# Altium footprint library Nucleo-64-G474.PcbLib: 1 footprints
Each footprint in its own frame and in the unit in brackets; x right, y up, seen from the top. Pads: shape width x height; smd on the part's side, far side on the other; paste and mask are expansions set on the pad; w line width, h text height; cw(c..) or ccw(c..) is an arc to the next point about the centre after c.
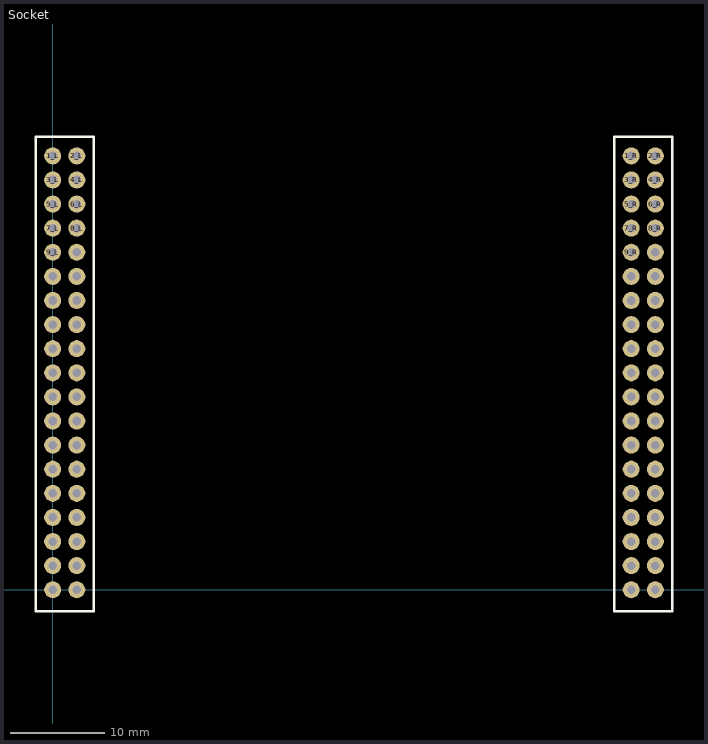
[diagram p0: the footprint, top view; thin cyan lines are the x and y axes]

## Socket [mm]
pads (76):
  round 1.8 hole 0.9: 1_L(0,45.72) 1_R(60.96,45.72) 2_L(2.54,45.72) 2_R(63.5,45.72) 3_L(0,43.18) 3_R(60.96,43.18) 4_L(2.54,43.18) 4_R(63.5,43.18) 5_L(0,40.64) 5_R(60.96,40.64) 6_L(2.54,40.64) 6_R(63.5,40.64) 7_L(0,38.1) 7_R(60.96,38.1) 8_L(2.54,38.1) 8_R(63.5,38.1) 9_L(0,35.56) 9_R(60.96,35.56) 10_L(2.54,35.56) 10_R(63.5,35.56) 11_L(0,33.02) 11_R(60.96,33.02) 12_L(2.54,33.02) 12_R(63.5,33.02) 13_L(0,30.48) 13_R(60.96,30.48) 14_L(2.54,30.48) 14_R(63.5,30.48) 15_L(0,27.94) 15_R(60.96,27.94) 16_L(2.54,27.94) 16_R(63.5,27.94) 17_L(0,25.4) 17_R(60.96,25.4) 18_L(2.54,25.4) 18_R(63.5,25.4) 19_L(0,22.86) 19_R(60.96,22.86) 20_L(2.54,22.86) 20_R(63.5,22.86) 21_L(0,20.32) 21_R(60.96,20.32) 22_L(2.54,20.32) 22_R(63.5,20.32) 23_L(0,17.78) 23_R(60.96,17.78) 24_L(2.54,17.78) 24_R(63.5,17.78) 25_L(0,15.24) 25_R(60.96,15.24) 26_L(2.54,15.24) 26_R(63.5,15.24) 27_L(0,12.7) 27_R(60.96,12.7) 28_L(2.54,12.7) 28_R(63.5,12.7) 29_L(0,10.16) 29_R(60.96,10.16) 30_L(2.54,10.16) 30_R(63.5,10.16) 31_L(0,7.62) 31_R(60.96,7.62) 32_L(2.54,7.62) 32_R(63.5,7.62) 33_L(0,5.08) 33_R(60.96,5.08) 34_L(2.54,5.08) 34_R(63.5,5.08) 35_L(0,2.54) 35_R(60.96,2.54) 36_L(2.54,2.54) 36_R(63.5,2.54) 37_L(0,0) 37_R(60.96,0) 38_L(2.54,0) 38_R(63.5,0)
Top Overlay:
  lines w0.254: -1.778,-2.286 4.318,-2.286 4.318,47.752 -1.778,47.752 -1.778,-2.286 ; 59.182,-2.286 59.182,47.752 65.278,47.752 65.278,-2.286 59.182,-2.286
3D body "MB1367C-for mechanical-drawing.x_t": height -4.03, standoff -22.7, extent -3.302,-4.995 66.698,78.655
3D body "SSW-119-01-T-D.stp": height 1.14, standoff -10.01, extent -1.207,-1.524 3.747,47.244
3D body "SSW-119-01-T-D.stp": height 1.14, standoff -10.01, extent 59.753,-1.524 64.707,47.244